# EAGLE library part ARDUINO-MEGA (library custom-ds)
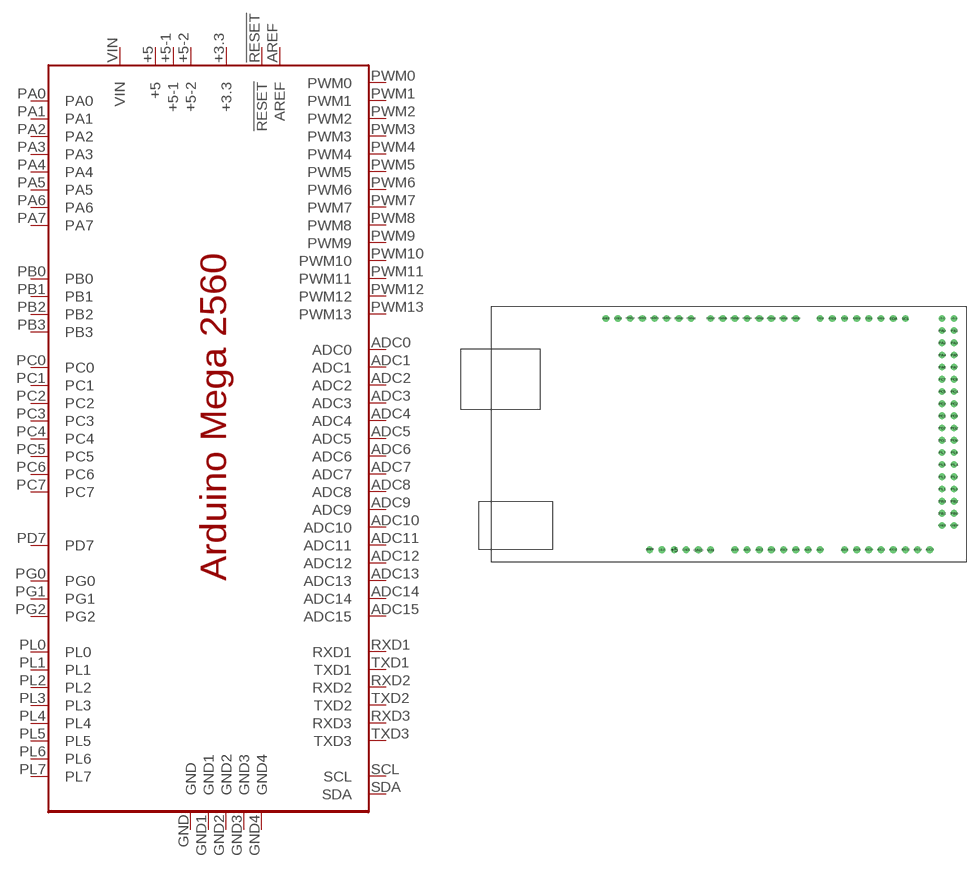
[diagram p1: symbol with the pads of ARDUINO-MEGA; footprint ARDUINO-MEGA]

Designator prefix J

## ARDUINO-MEGA  [ARDUINO-MEGA]
!RESET  !RESET  in
+3.3  +3.3  pwr
+5  +5  pwr
+5-1  +5-1  pwr
+5-2  +5-2  pwr
ADC0  ADC0
ADC1  ADC1
ADC2  ADC2
ADC3  ADC3
ADC4  ADC4
ADC5  ADC5
ADC6  ADC6
ADC7  ADC7
ADC8  ADC8
ADC9  ADC9
ADC10  ADC10
ADC11  ADC11
ADC12  ADC12
ADC13  ADC13
ADC14  ADC14
ADC15  ADC15
AREF  AREF  in
GND  GND  pwr
GND1  GND1  pwr
GND2  GND2  pwr
GND3  GND3  pwr
GND4  GND4  pwr
PA0  PA0
PA1  PA1
PA2  PA2
PA3  PA3
PA4  PA4
PA5  PA5
PA6  PA6
PA7  PA7
PB0  PB0
PB1  PB1
PB2  PB2
PB3  PB3
PC0  PC0
PC1  PC1
PC2  PC2
PC3  PC3
PC4  PC4
PC5  PC5
PC6  PC6
PC7  PC7
PD7  PD7
PG0  PG0
PG1  PG1
PG2  PG2
PL0  PL0
PL1  PL1
PL2  PL2
PL3  PL3
PL4  PL4
PL5  PL5
PL6  PL6
PL7  PL7
PWM0  PWM0
PWM1  PWM1
PWM2  PWM2
PWM3  PWM3
PWM4  PWM4
PWM5  PWM5
PWM6  PWM6
PWM7  PWM7
PWM8  PWM8
PWM9  PWM9
PWM10  PWM10
PWM11  PWM11
PWM12  PWM12
PWM13  PWM13
RXD1  RXD1  in
RXD2  RXD2  in
RXD3  RXD3  in
SCL  SCL
SDA  SDA
TXD1  TXD1  out
TXD2  TXD2  out
TXD3  TXD3  out
VIN  VIN  pwr

## Footprint ARDUINO-MEGA (pad centres in mm)
Arduino Mega Board
drill 0.9: !RESET 33.02,2.54; +3.3 35.56,2.54; +5 38.1,2.54; +5-1 93.98,50.8; +5-2 96.52,50.8; ADC0 50.8,2.54; ADC1 53.34,2.54; ADC2 55.88,2.54; ADC3 58.42,2.54; ADC4 60.96,2.54; ADC5 63.5,2.54; ADC6 66.04,2.54; ADC7 68.58,2.54; ADC8 73.66,2.54; ADC9 76.2,2.54; ADC10 78.74,2.54; ADC11 81.28,2.54; ADC12 83.82,2.54; ADC13 86.36,2.54; ADC14 88.9,2.54; ADC15 91.44,2.54; AREF 23.876,50.8; GND 43.18,2.54; GND1 40.64,2.54; GND2 26.416,50.8; GND3 93.98,7.62; GND4 96.52,7.62; PA0 93.98,48.26; PA1 96.52,48.26; PA2 93.98,45.72; PA3 96.52,45.72; PA4 93.98,43.18; PA5 96.52,43.18; PA6 93.98,40.64; PA7 96.52,40.64; PB0 96.52,10.16; PB1 93.98,10.16; PB2 96.52,12.7; PB3 93.98,12.7; PC0 96.52,30.48; PC1 93.98,30.48; PC2 96.52,33.02; PC3 93.98,33.02; PC4 96.52,35.56; PC5 93.98,35.56; PC6 96.52,38.1; PC7 93.98,38.1; PD7 93.98,27.94; PG0 96.52,25.4; PG1 93.98,25.4; PG2 96.52,27.94; PL0 96.52,15.24; PL1 93.98,15.24; PL2 96.52,17.78; PL3 93.98,17.78; PL4 96.52,20.32; PL5 93.98,20.32; PL6 96.52,22.86; PL7 93.98,22.86; PWM0 63.5,50.8; PWM1 60.96,50.8; PWM2 58.42,50.8; PWM3 55.88,50.8; PWM4 53.34,50.8; PWM5 50.8,50.8; PWM6 48.26,50.8; PWM7 45.72,50.8; PWM8 41.656,50.8; PWM9 39.116,50.8; PWM10 36.576,50.8; PWM11 34.036,50.8; PWM12 31.496,50.8; PWM13 28.956,50.8; RXD1 81.28,50.8; RXD2 76.2,50.8; RXD3 71.12,50.8; SCL 86.36,50.8; SDA 83.82,50.8; TXD1 78.74,50.8; TXD2 73.66,50.8; TXD3 68.58,50.8; VIN 45.72,2.54